# Altium schematic symbol library 24-Logo_Lib.SchLib: 1 symbol
Pins are listed as number, name and electrical type; pins without a type are passive.

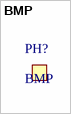
[diagram p0: symbol BMP]

## BMP
designator PH?
闪电符号
footprint LOGO_Thunder
footprint LOGO-3S
footprint LOGO_Cyber